# EAGLE library part TEENSY41 (library teensy)
Teensy 4.1 by PJRC https://www.pjrc.com/store/teensy41.html#tech
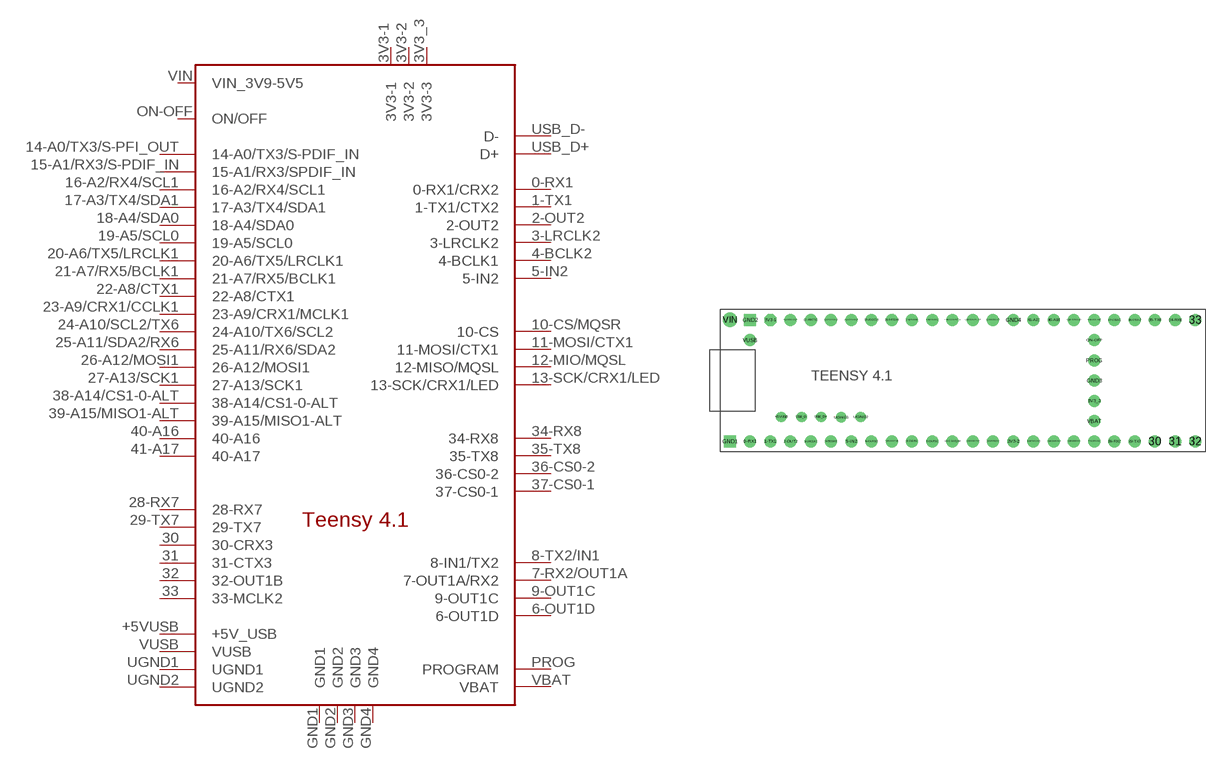
[diagram p2: symbol with the pads of TEENSY41; footprint TEENSY41]

Designator prefix A

## TEENSY41  [TEENSY41]
0-RX1  0-RX1/CRX2
1-TX1  1-TX1/CTX2
2-OUT2  2-OUT2
3-LRCLK2  3-LRCLK2
3V3-1  3V3-1
3V3-2  3V3-2
3V3_3  3V3-3
4-BCLK2  4-BCLK1
5-IN2  5-IN2
6-OUT1D  6-OUT1D
7-RX2/OUT1A  7-OUT1A/RX2
8-TX2/IN1  8-IN1/TX2
9-OUT1C  9-OUT1C
10-CS/MQSR  10-CS
11-MOSI/CTX1  11-MOSI/CTX1
12-MIO/MQSL  12-MISO/MQSL
13-SCK/CRX1/LED  13-SCK/CRX1/LED
14-A0/TX3/S-PFI_OUT  14-A0/TX3/S-PDIF_IN
15-A1/RX3/S-PDIF_IN  15-A1/RX3/SPDIF_IN
16-A2/RX4/SCL1  16-A2/RX4/SCL1
17-A3/TX4/SDA1  17-A3/TX4/SDA1
18-A4/SDA0  18-A4/SDA0
19-A5/SCL0  19-A5/SCL0
20-A6/TX5/LRCLK1  20-A6/TX5/LRCLK1
21-A7/RX5/BCLK1  21-A7/RX5/BCLK1
22-A8/CTX1  22-A8/CTX1
23-A9/CRX1/CCLK1  23-A9/CRX1/MCLK1
24-A10/SCL2/TX6  24-A10/TX6/SCL2
25-A11/SDA2/RX6  25-A11/RX6/SDA2
26-A12/MOSI1  26-A12/MOSI1
27-A13/SCK1  27-A13/SCK1
28-RX7  28-RX7
29-TX7  29-TX7
30  30-CRX3
31  31-CTX3
32  32-OUT1B
33  33-MCLK2
34-RX8  34-RX8
35-TX8  35-TX8
36-CS0-2  36-CS0-2
37-CS0-1  37-CS0-1
38-A14/CS1-0-ALT  38-A14/CS1-0-ALT
39-A15/MISO1-ALT  39-A15/MISO1-ALT
40-A16  40-A16
41-A17  40-A17
+5VUSB  +5V_USB
GND1  GND1
GND2  GND2
GND3  GND3
GND4  GND4
ON-OFF  ON/OFF
PROG  PROGRAM
UGND1  UGND1
UGND2  UGND2
USB_D+  D+
USB_D-  D-
VBAT  VBAT
VIN  VIN_3V9-5V5
VUSB  VUSB

## Footprint TEENSY41 (pad centres in mm)
Teensy 4.1 by PJRC
drill 1: 0-RX1 2.54,0; 1-TX1 5.08,0; 2-OUT2 7.62,0; 3-LRCLK2 10.16,0; 3V3-2 35.56,0; 3V3_3 45.72,5.08; 4-BCLK2 12.7,0; 5-IN2 15.24,0; 6-OUT1D 17.78,0; 7-RX2/OUT1A 20.32,0; 8-TX2/IN1 22.86,0; 9-OUT1C 25.4,0; 10-CS/MQSR 27.94,0; 11-MOSI/CTX1 30.48,0; 12-MIO/MQSL 33.02,0; 13-SCK/CRX1/LED 33.02,15.24; 14-A0/TX3/S-PFI_OUT 30.48,15.24; 15-A1/RX3/S-PDIF_IN 27.94,15.24; 16-A2/RX4/SCL1 25.4,15.24; 17-A3/TX4/SDA1 22.86,15.24; 18-A4/SDA0 20.32,15.24; 19-A5/SCL0 17.78,15.24; 20-A6/TX5/LRCLK1 15.24,15.24; 21-A7/RX5/BCLK1 12.7,15.24; 22-A8/CTX1 10.16,15.24; 23-A9/CRX1/CCLK1 7.62,15.24; 24-A10/SCL2/TX6 38.1,0; 25-A11/SDA2/RX6 40.64,0; 26-A12/MOSI1 43.18,0; 27-A13/SCK1 45.72,0; 28-RX7 48.26,0; 29-TX7 50.8,0; 30 53.34,0; 31 55.88,0; 32 58.42,0; 33 58.42,15.24; 34-RX8 55.88,15.24; 35-TX8 53.34,15.24; 36-CS0-2 50.8,15.24; 37-CS0-1 48.26,15.24; 38-A14/CS1-0-ALT 45.72,15.24; 39-A15/MISO1-ALT 43.18,15.24; 40-A16 40.64,15.24; 41-A17 38.1,15.24; GND3 45.72,7.62; GND4 35.56,15.24; ON-OFF 45.72,12.7; PROG 45.72,10.16; VBAT 45.72,2.54; VUSB 2.54,12.7
drill 1 octagon: 3V3-1 5.08,15.24
drill 0.8: +5VUSB 6.43,3.05; UGND1 13.98,3; UGND2 16.43,3.05; USB_D+ 11.43,3.05; USB_D- 8.98,3.05
drill 1 square: GND1 0,0; GND2 2.54,15.24
drill 1 pad 1.778: VIN 0,15.24